# Altium integrated library TPS2375D.IntLib: 1 symbol
Pins are listed as number, name and electrical type; pins without a type are passive.

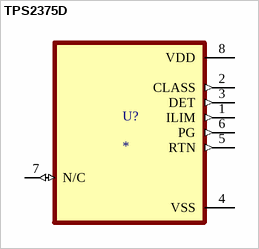
[diagram p0: symbol TPS2375D]

## TPS2375D
designator U?
Class 3 PoE PD with latch protection 8-SOIC -40 to 85; MP: TPS2375D; MF: Texas Instruments; Purchase-URL: https://pricing.snapeda.com/search/part/TPS2375D/?ref=eda; Package: SOIC-8 Texas Instruments; SnapEDA_Link: https://www.snapeda.com/parts/TPS2375D/Texas%20Instruments/view-part/570877/?ref=snap; Value: *; Check_prices: https://www.snapeda.com/parts/TPS2375D/Texas%20Instruments/view-part/570877/?ref=eda; Digi-Key_Part_Number: 296-26922-2-ND
footprint SOIC127P599X175-8N
pins: 1 ILIM (out), 2 CLASS (out), 3 DET (out), 4 VSS (power), 5 RTN (out), 6 PG (out), 7 N/C (io), 8 VDD (power)